# Altium schematic symbol library Transistor_FET.SchLib: 598 symbols (part 4 of 6)
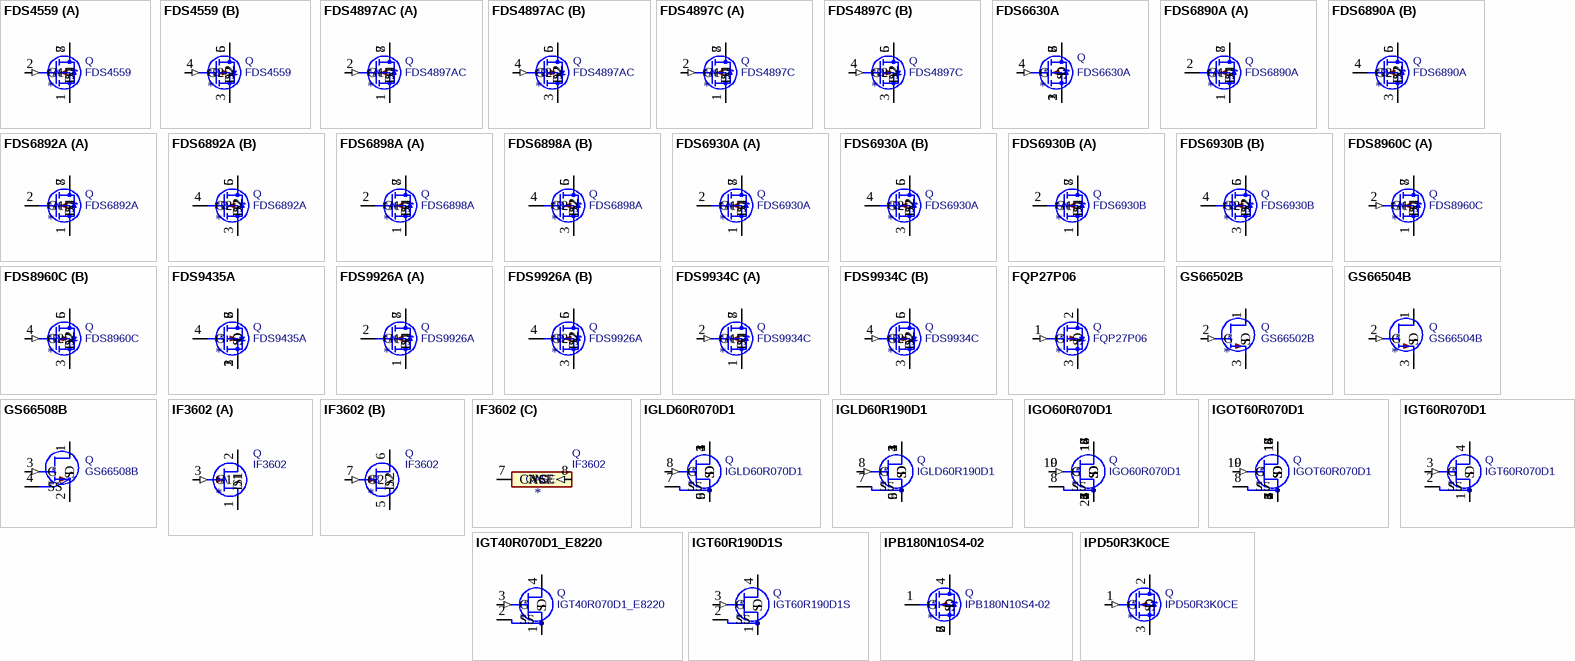
[diagram p19: symbols FDS4559 to IPD50R3K0CE]

## IPD50R3K0CE
designator *  value IPD50R3K0CE  Reference: Q
1.7A Id, 500V Vds, CoolMOS N-Channel Power MOSFET, 3Ohm Ron, 4.3nC Qg (typ), TO-252-2; ki_keywords: CoolMOS Power MOSFET N-MOS; ki_fp_filters: TO?252*; Footprint: Package_TO_SOT_SMD:TO-252-2; Datasheet: https://www.infineon.com/dgdl/IPx50R3K0CE_2_0.pdf?folderId=db3a3043163797a6011637d4bae7003b&fileId=db3a304339dcf4b10139e7e9ff592ce4; Description_: 1.7A Id, 500V Vds, CoolMOS N-Channel Power MOSFET, 3Ohm Ron, 4.3nC Qg (typ), TO-252-2
pins: 1 G (in), 2 D, 3 S

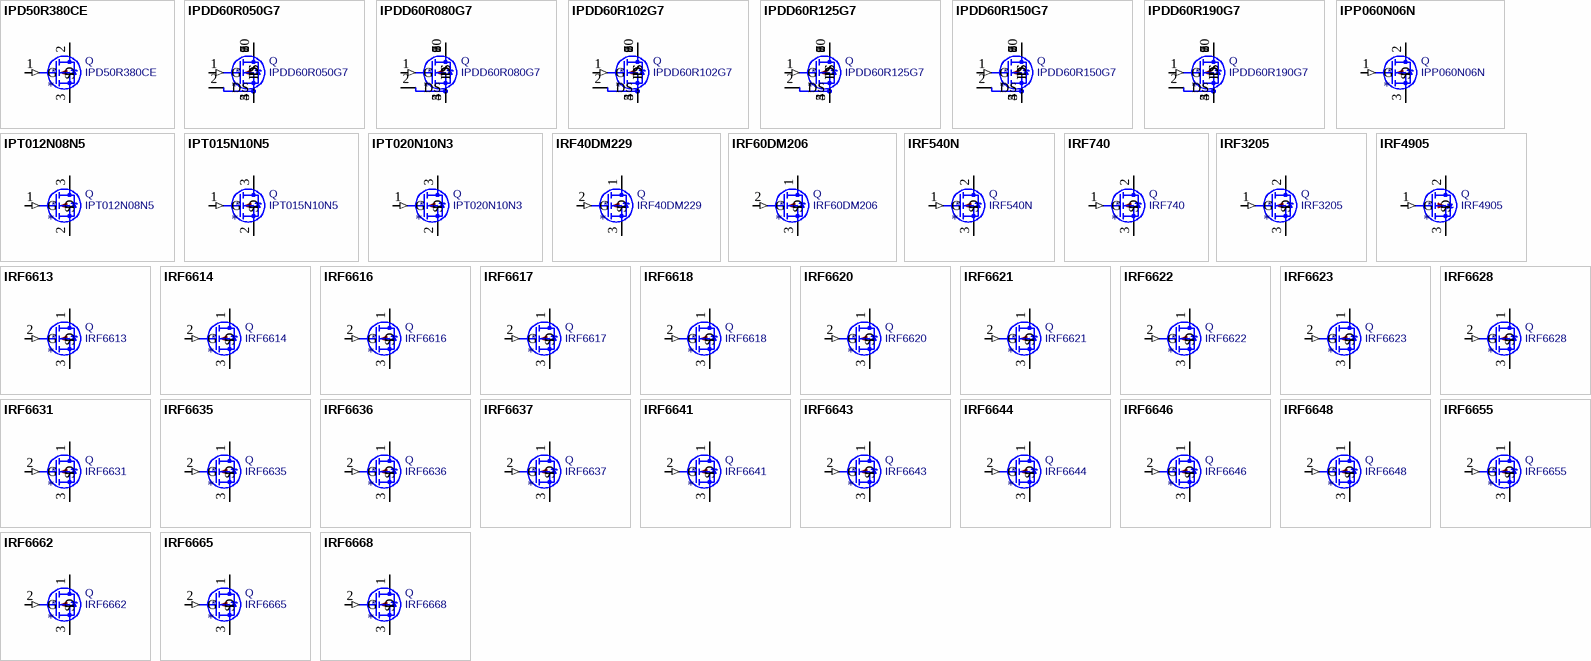
[diagram p9: symbols IPD50R380CE to IRF6668]

## IPD50R380CE
designator *  value IPD50R380CE  Reference: Q
14.1A Id, 500V Vds, CoolMOS N-Channel Power MOSFET, 380mOhm Ron, 24.8nC Qg (typ), TO-252-2; ki_keywords: CoolMOS Power MOSFET N-MOS; ki_fp_filters: TO?252*; Footprint: Package_TO_SOT_SMD:TO-252-2; Datasheet: https://www.infineon.com/dgdl/Infineon-IPD50R380CE-DS-v02_01-en.pdf?fileId=db3a30433ecb86d4013ed0a2ef580f38; Description_: 14.1A Id, 500V Vds, CoolMOS N-Channel Power MOSFET, 380mOhm Ron, 24.8nC Qg (typ), TO-252-2
pins: 1 G (in), 2 D, 3 S

## IPDD60R050G7
designator *  value IPDD60R050G7  Reference: Q
47A Id, 600V Vds, 50mOhm, N-Channel MOSFET, CoolMOS G7, PG-HDSOP-10-1 (DDPAK); ki_fp_filters: Infineon*PG*HDSOP*; Footprint: Package_TO_SOT_SMD:Infineon_PG-HDSOP-10-1; Datasheet: https://www.infineon.com/dgdl/Infineon-IPDD60R050G7-DS-v02_00-EN.pdf?fileId=5546d4626102d35a0161707eb2f97810; Description_: 47A Id, 600V Vds, 50mOhm, N-Channel MOSFET, CoolMOS G7, PG-HDSOP-10-1 (DDPAK); ki_keywords: N-Channel MOSFET
pins: 1 G (in), 2 DS, 3 PS, 4 PS, 5 PS, 6 D, 7 D, 8 D, 9 D, 10 D

## IPDD60R080G7
designator *  value IPDD60R080G7  Reference: Q
29A Id, 600V Vds, 80mOhm, N-Channel MOSFET, CoolMOS G7, PG-HDSOP-10-1 (DDPAK); ki_fp_filters: Infineon*PG*HDSOP*; Footprint: Package_TO_SOT_SMD:Infineon_PG-HDSOP-10-1; Datasheet: https://www.infineon.com/dgdl/Infineon-IPDD60R080G7-DS-v02_00-EN.pdf?fileId=5546d4626102d35a016170882f757a07; Description_: 29A Id, 600V Vds, 80mOhm, N-Channel MOSFET, CoolMOS G7, PG-HDSOP-10-1 (DDPAK); ki_keywords: N-Channel MOSFET
pins: 1 G (in), 2 DS, 3 PS, 4 PS, 5 PS, 6 D, 7 D, 8 D, 9 D, 10 D

## IPDD60R102G7
designator *  value IPDD60R102G7  Reference: Q
23A Id, 600V Vds, 102mOhm, N-Channel MOSFET, CoolMOS G7, PG-HDSOP-10-1 (DDPAK); ki_fp_filters: Infineon*PG*HDSOP*; Footprint: Package_TO_SOT_SMD:Infineon_PG-HDSOP-10-1; Datasheet: https://www.infineon.com/dgdl/Infineon-IPDD60R102G7-DS-v02_00-EN.pdf?fileId=5546d4626102d35a01617087ee7379ed; Description_: 23A Id, 600V Vds, 102mOhm, N-Channel MOSFET, CoolMOS G7, PG-HDSOP-10-1 (DDPAK); ki_keywords: N-Channel MOSFET
pins: 1 G (in), 2 DS, 3 PS, 4 PS, 5 PS, 6 D, 7 D, 8 D, 9 D, 10 D

## IPDD60R125G7
designator *  value IPDD60R125G7  Reference: Q
20A Id, 600V Vds, 125mOhm, N-Channel MOSFET, CoolMOS G7, PG-HDSOP-10-1 (DDPAK); ki_fp_filters: Infineon*PG*HDSOP*; Footprint: Package_TO_SOT_SMD:Infineon_PG-HDSOP-10-1; Datasheet: https://www.infineon.com/dgdl/Infineon-IPDD60R125G7-DS-v02_00-EN.pdf?fileId=5546d4626102d35a0161706cba27778f; Description_: 20A Id, 600V Vds, 125mOhm, N-Channel MOSFET, CoolMOS G7, PG-HDSOP-10-1 (DDPAK); ki_keywords: N-Channel MOSFET
pins: 1 G (in), 2 DS, 3 PS, 4 PS, 5 PS, 6 D, 7 D, 8 D, 9 D, 10 D

## IPDD60R150G7
designator *  value IPDD60R150G7  Reference: Q
16A Id, 600V Vds, 150mOhm, N-Channel MOSFET, CoolMOS G7, PG-HDSOP-10-1 (DDPAK); ki_fp_filters: Infineon*PG*HDSOP*; Footprint: Package_TO_SOT_SMD:Infineon_PG-HDSOP-10-1; Datasheet: https://www.infineon.com/dgdl/Infineon-IPDD60R150G7-DS-v02_00-EN.pdf?fileId=5546d4626102d35a016170806aa57863; Description_: 16A Id, 600V Vds, 150mOhm, N-Channel MOSFET, CoolMOS G7, PG-HDSOP-10-1 (DDPAK); ki_keywords: N-Channel MOSFET
pins: 1 G (in), 2 DS, 3 PS, 4 PS, 5 PS, 6 D, 7 D, 8 D, 9 D, 10 D

## IPDD60R190G7
designator *  value IPDD60R190G7  Reference: Q
13A Id, 600V Vds, 190mOhm, N-Channel MOSFET, CoolMOS G7, PG-HDSOP-10-1 (DDPAK); ki_fp_filters: Infineon*PG*HDSOP*; Footprint: Package_TO_SOT_SMD:Infineon_PG-HDSOP-10-1; Datasheet: https://www.infineon.com/dgdl/Infineon-IPDD60R190G7-DS-v02_00-EN.pdf?fileId=5546d4626102d35a01617087dc0f79ea; Description_: 13A Id, 600V Vds, 190mOhm, N-Channel MOSFET, CoolMOS G7, PG-HDSOP-10-1 (DDPAK); ki_keywords: N-Channel MOSFET
pins: 1 G (in), 2 DS, 3 PS, 4 PS, 5 PS, 6 D, 7 D, 8 D, 9 D, 10 D

## IPP060N06N
designator *  value IPP060N06N  Reference: Q
45A Id, 60V Vds, Single N-Channel Power MOSFET, 6mOhm Ron, TO-220; ki_keywords: N-Channel Power MOSFET Infineon; ki_fp_filters: TO?220*; Footprint: Package_TO_SOT_THT:TO-220-3_Vertical; Datasheet: https://www.infineon.com/dgdl/Infineon-IPP060N06N-DS-v02_02-en.pdf?fileId=db3a30433727a44301372c06d9d7498a; Description_: 45A Id, 60V Vds, Single N-Channel Power MOSFET, 6mOhm Ron, TO-220
pins: 1 G (in), 2 D, 3 S

## IPT012N08N5
designator *  value IPT012N08N5  Reference: Q
300A Id, 80V Vds, OptiMOS N-Channel Power MOSFET, 1.2mOhm Ron, Qg (typ) 178.0nC, PG-HSOF-8; ki_keywords: OptiMOS Power MOSFET N-MOS; ki_fp_filters: Infineon*PG*HSOF*; Footprint: Package_TO_SOT_SMD:Infineon_PG-HSOF-8-1; Datasheet: http://www.infineon.com/dgdl/Infineon-IPT012N08N5-DS-v02_01-EN.pdf?fileId=5546d4624a75e5f1014aca59127a1eb9; Description_: 300A Id, 80V Vds, OptiMOS N-Channel Power MOSFET, 1.2mOhm Ron, Qg (typ) 178.0nC, PG-HSOF-8
pins: 1 G (in), 2 S, 3 D

## IPT015N10N5
designator *  value IPT015N10N5  Reference: Q
300A Id, 100V Vds, OptiMOS N-Channel Power MOSFET, 1.5mOhm Ron, Qg (typ) 169.0nC, PG-HSOF-8; ki_keywords: OptiMOS Power MOSFET N-MOS; ki_fp_filters: Infineon*PG*HSOF*; Footprint: Package_TO_SOT_SMD:Infineon_PG-HSOF-8-1; Datasheet: http://www.infineon.com/dgdl/Infineon-IPT015N10N5-DS-v02_01-EN.pdf?fileId=5546d4624a75e5f1014ac94680661aff; Description_: 300A Id, 100V Vds, OptiMOS N-Channel Power MOSFET, 1.5mOhm Ron, Qg (typ) 169.0nC, PG-HSOF-8
pins: 1 G (in), 2 S, 3 D

## IPT020N10N3
designator *  value IPT020N10N3  Reference: Q
300A Id, 100V Vds, OptiMOS N-Channel Power MOSFET, 2.0mOhm Ron, Qg (typ) 156.0nC, PG-HSOF-8; ki_keywords: OptiMOS Power MOSFET N-MOS; ki_fp_filters: Infineon*PG*HSOF*; Footprint: Package_TO_SOT_SMD:Infineon_PG-HSOF-8-1; Datasheet: http://www.infineon.com/dgdl/Infineon-IPT020N10N3-DS-v02_00-en.pdf?fileId=db3a30433e9d5d11013e9e58035b0158; Description_: 300A Id, 100V Vds, OptiMOS N-Channel Power MOSFET, 2.0mOhm Ron, Qg (typ) 156.0nC, PG-HSOF-8
pins: 1 G (in), 2 S, 3 D

## IRF40DM229
designator *  value IRF40DM229  Reference: Q
159A Id, 40V Vds, 1.85mOhm Rds, N-Channel MOSFET, DirectFET MF; ki_fp_filters: DirectFET*MF*; Footprint: Package_DirectFET:DirectFET_MF; Datasheet: https://www.infineon.com/dgdl/Infineon-IRF40DM229-DS-v02_00-EN.pdf?fileId=5546d462557e6e890155a15c899160ea; Description_: 159A Id, 40V Vds, 1.85mOhm Rds, N-Channel MOSFET, DirectFET MF; ki_keywords: N-Channel MOSFET
pins: 1 D, 2 G (in), 3 S

## IRF60DM206
designator *  value IRF60DM206  Reference: Q
130A Id, 60V Vds, 2.9mOhm Rds, N-Channel MOSFET, DirectFET ME; ki_fp_filters: DirectFET*ME*; Footprint: Package_DirectFET:DirectFET_ME; Datasheet: https://www.infineon.com/dgdl/irf60dm206.pdf?fileId=5546d462533600a4015355e433aa19ca; Description_: 130A Id, 60V Vds, 2.9mOhm Rds, N-Channel MOSFET, DirectFET ME; ki_keywords: N-Channel MOSFET
pins: 1 D, 2 G (in), 3 S

## IRF540N
designator *  value IRF540N  Reference: Q
33A Id, 100V Vds, HEXFET N-Channel MOSFET, TO-220; ki_fp_filters: TO?220*; Footprint: Package_TO_SOT_THT:TO-220-3_Vertical; Datasheet: http://www.irf.com/product-info/datasheets/data/irf540n.pdf; Description_: 33A Id, 100V Vds, HEXFET N-Channel MOSFET, TO-220; ki_keywords: HEXFET N-Channel MOSFET
pins: 1 G (in), 2 D, 3 S

## IRF740
designator *  value IRF740  Reference: Q
10A Id, 400V Vds, N-Channel Power MOSFET, 500mOhm Rds, TO-220AB; ki_keywords: N Channel; ki_fp_filters: TO?220*; Footprint: Package_TO_SOT_THT:TO-220-3_Vertical; Datasheet: http://www.vishay.com/docs/91054/91054.pdf; Description_: 10A Id, 400V Vds, N-Channel Power MOSFET, 500mOhm Rds, TO-220AB
pins: 1 G (in), 2 D, 3 S

## IRF3205
designator *  value IRF3205  Reference: Q
110A Id, 55V Vds, Single N-Channel HEXFET Power MOSFET, 8mOhm Ron, TO-220AB; ki_fp_filters: TO?220*; Footprint: Package_TO_SOT_THT:TO-220-3_Vertical; Datasheet: http://www.irf.com/product-info/datasheets/data/irf3205.pdf; Description_: 110A Id, 55V Vds, Single N-Channel HEXFET Power MOSFET, 8mOhm Ron, TO-220AB; ki_keywords: Single N-Channel HEXFET Power MOSFET
pins: 1 G (in), 2 D, 3 S

## IRF4905
designator *  value IRF4905  Reference: Q
-74A Id, -55V Vds, Single P-Channel HEXFET Power MOSFET, 20mOhm Ron, TO-220AB; ki_fp_filters: TO?220*; Footprint: Package_TO_SOT_THT:TO-220-3_Vertical; Datasheet: http://www.infineon.com/dgdl/irf4905.pdf?fileId=5546d462533600a4015355e32165197c; Description_: -74A Id, -55V Vds, Single P-Channel HEXFET Power MOSFET, 20mOhm Ron, TO-220AB; ki_keywords: Single P-Channel HEXFET Power MOSFET
pins: 1 G (in), 2 D, 3 S

## IRF6613
designator *  value IRF6613  Reference: Q
150A Id, 40V Vds, 3.4mOhm Rds, N-Channel MOSFET, DirectFET MT; ki_fp_filters: DirectFET*MT*; Footprint: Package_DirectFET:DirectFET_MT; Datasheet: https://www.infineon.com/dgdl/irf6613pbf.pdf?fileId=5546d462533600a4015355e82b9b1a0d; Description_: 150A Id, 40V Vds, 3.4mOhm Rds, N-Channel MOSFET, DirectFET MT; ki_keywords: N-Channel MOSFET
pins: 1 D, 2 G (in), 3 S

## IRF6614
designator *  value IRF6614  Reference: Q
12.7A Id, 40V Vds, 8.3mOhm Rds, N-Channel MOSFET, DirectFET ST; ki_fp_filters: DirectFET*ST*; Footprint: Package_DirectFET:DirectFET_ST; Datasheet: https://www.infineon.com/dgdl/irf6614pbf.pdf?fileId=5546d462533600a4015355e8346c1a0f; Description_: 12.7A Id, 40V Vds, 8.3mOhm Rds, N-Channel MOSFET, DirectFET ST; ki_keywords: N-Channel MOSFET
pins: 1 D, 2 G (in), 3 S

## IRF6616
designator *  value IRF6616  Reference: Q
19A Id, 40V Vds, 5mOhm Rds, N-Channel MOSFET, DirectFET MX; ki_fp_filters: DirectFET*MX*; Footprint: Package_DirectFET:DirectFET_MX; Datasheet: https://www.infineon.com/dgdl/irf6616pbf.pdf?fileId=5546d462533600a4015355e843461a13; Description_: 19A Id, 40V Vds, 5mOhm Rds, N-Channel MOSFET, DirectFET MX; ki_keywords: N-Channel MOSFET
pins: 1 D, 2 G (in), 3 S

## IRF6617
designator *  value IRF6617  Reference: Q
55A Id, 30V Vds, 8.1mOhm Rds, N-Channel MOSFET, DirectFET ST; ki_fp_filters: DirectFET*ST*; Footprint: Package_DirectFET:DirectFET_ST; Datasheet: https://www.infineon.com/dgdl/irf6617pbf.pdf?fileId=5546d462533600a4015355e853f21a17; Description_: 55A Id, 30V Vds, 8.1mOhm Rds, N-Channel MOSFET, DirectFET ST; ki_keywords: N-Channel MOSFET
pins: 1 D, 2 G (in), 3 S

## IRF6618
designator *  value IRF6618  Reference: Q
170A Id, 30V Vds, 2.2mOhm Rds, N-Channel MOSFET, DirectFET MT; ki_fp_filters: DirectFET*MT*; Footprint: Package_DirectFET:DirectFET_MT; Datasheet: https://www.infineon.com/dgdl/irf6618pbf.pdf?fileId=5546d462533600a4015355e862c21a1b; Description_: 170A Id, 30V Vds, 2.2mOhm Rds, N-Channel MOSFET, DirectFET MT; ki_keywords: N-Channel MOSFET
pins: 1 D, 2 G (in), 3 S

## IRF6620
designator *  value IRF6620  Reference: Q
150A Id, 20V Vds, 2.7mOhm Rds, N-Channel MOSFET, DirectFET MX; ki_fp_filters: DirectFET*MX*; Footprint: Package_DirectFET:DirectFET_MX; Datasheet: https://www.infineon.com/dgdl/irf6620pbf.pdf?fileId=5546d462533600a4015355e8831d1a23; Description_: 150A Id, 20V Vds, 2.7mOhm Rds, N-Channel MOSFET, DirectFET MX; ki_keywords: N-Channel MOSFET
pins: 1 D, 2 G (in), 3 S

## IRF6621
designator *  value IRF6621  Reference: Q
12A Id, 30V Vds, 9.1mOhm Rds, N-Channel MOSFET, DirectFET SQ; ki_fp_filters: DirectFET*SQ*; Footprint: Package_DirectFET:DirectFET_SQ; Datasheet: https://www.infineon.com/dgdl/irf6621pbf.pdf?fileId=5546d462533600a4015355e8923b1a27; Description_: 12A Id, 30V Vds, 9.1mOhm Rds, N-Channel MOSFET, DirectFET SQ; ki_keywords: N-Channel MOSFET
pins: 1 D, 2 G (in), 3 S

## IRF6622
designator *  value IRF6622  Reference: Q
15A Id, 25V Vds, 6.3mOhm Rds, N-Channel MOSFET, DirectFET SQ; ki_fp_filters: DirectFET*SQ*; Footprint: Package_DirectFET:DirectFET_SQ; Datasheet: https://www.infineon.com/dgdl/irf6622pbf.pdf?fileId=5546d462533600a4015355e89a3a1a29; Description_: 15A Id, 25V Vds, 6.3mOhm Rds, N-Channel MOSFET, DirectFET SQ; ki_keywords: N-Channel MOSFET
pins: 1 D, 2 G (in), 3 S

## IRF6623
designator *  value IRF6623  Reference: Q
55A Id, 20V Vds, 5.7mOhm Rds, N-Channel MOSFET, DirectFET ST; ki_fp_filters: DirectFET*ST*; Footprint: Package_DirectFET:DirectFET_ST; Datasheet: https://www.infineon.com/dgdl/irf6623pbf.pdf?fileId=5546d462533600a4015355e8aa811a2d; Description_: 55A Id, 20V Vds, 5.7mOhm Rds, N-Channel MOSFET, DirectFET ST; ki_keywords: N-Channel MOSFET
pins: 1 D, 2 G (in), 3 S

## IRF6628
designator *  value IRF6628  Reference: Q
27A Id, 25V Vds, 2.5mOhm Rds, N-Channel MOSFET, DirectFET MX; ki_fp_filters: DirectFET*MX*; Footprint: Package_DirectFET:DirectFET_MX; Datasheet: https://www.infineon.com/dgdl/irf6628pbf.pdf?fileId=5546d462533600a4015355e8c0d71a33; Description_: 27A Id, 25V Vds, 2.5mOhm Rds, N-Channel MOSFET, DirectFET MX; ki_keywords: N-Channel MOSFET
pins: 1 D, 2 G (in), 3 S

## IRF6631
designator *  value IRF6631  Reference: Q
13A Id, 30V Vds, 7.8mOhm Rds, N-Channel MOSFET, DirectFET SQ; ki_fp_filters: DirectFET*SQ*; Footprint: Package_DirectFET:DirectFET_SQ; Datasheet: https://www.infineon.com/dgdl/irf6631pbf.pdf?fileId=5546d462533600a4015355e8d0561a37; Description_: 13A Id, 30V Vds, 7.8mOhm Rds, N-Channel MOSFET, DirectFET SQ; ki_keywords: N-Channel MOSFET
pins: 1 D, 2 G (in), 3 S

## IRF6635
designator *  value IRF6635  Reference: Q
32A Id, 30V Vds, 1.8mOhm Rds, N-Channel MOSFET, DirectFET MX; ki_fp_filters: DirectFET*MX*; Footprint: Package_DirectFET:DirectFET_MX; Datasheet: https://www.infineon.com/dgdl/irf6635pbf.pdf?fileId=5546d462533600a4015355e8e7ab1a3d; Description_: 32A Id, 30V Vds, 1.8mOhm Rds, N-Channel MOSFET, DirectFET MX; ki_keywords: N-Channel MOSFET
pins: 1 D, 2 G (in), 3 S

## IRF6636
designator *  value IRF6636  Reference: Q
18A Id, 20V Vds, 4.5mOhm Rds, N-Channel MOSFET, DirectFET ST; ki_fp_filters: DirectFET*ST*; Footprint: Package_DirectFET:DirectFET_ST; Datasheet: https://www.infineon.com/dgdl/irf6636pbf.pdf?fileId=5546d462533600a4015355e8f7b31a41; Description_: 18A Id, 20V Vds, 4.5mOhm Rds, N-Channel MOSFET, DirectFET ST; ki_keywords: N-Channel MOSFET
pins: 1 D, 2 G (in), 3 S

## IRF6637
designator *  value IRF6637  Reference: Q
14A Id, 30V Vds, 7.7mOhm Rds, N-Channel MOSFET, DirectFET MP; ki_fp_filters: DirectFET*MP*; Footprint: Package_DirectFET:DirectFET_MP; Datasheet: https://www.infineon.com/dgdl/irf6637pbf.pdf?fileId=5546d462533600a4015355ec1fab1a45; Description_: 14A Id, 30V Vds, 7.7mOhm Rds, N-Channel MOSFET, DirectFET MP; ki_keywords: N-Channel MOSFET
pins: 1 D, 2 G (in), 3 S

## IRF6641
designator *  value IRF6641  Reference: Q
26A Id, 200V Vds, 59.9mOhm Rds, N-Channel MOSFET, DirectFET MZ; ki_fp_filters: DirectFET*MZ*; Footprint: Package_DirectFET:DirectFET_MZ; Datasheet: https://www.infineon.com/dgdl/irf6641pbf.pdf?fileId=5546d462533600a4015355ec30311a49; Description_: 26A Id, 200V Vds, 59.9mOhm Rds, N-Channel MOSFET, DirectFET MZ; ki_keywords: N-Channel MOSFET
pins: 1 D, 2 G (in), 3 S

## IRF6643
designator *  value IRF6643  Reference: Q
35A Id, 150V Vds, 34.5mOhm Rds, N-Channel MOSFET, DirectFET MZ; ki_fp_filters: DirectFET*MZ*; Footprint: Package_DirectFET:DirectFET_MZ; Datasheet: https://www.infineon.com/dgdl/irf6643pbf.pdf?fileId=5546d462533600a4015355ec388f1a4b; Description_: 35A Id, 150V Vds, 34.5mOhm Rds, N-Channel MOSFET, DirectFET MZ; ki_keywords: N-Channel MOSFET
pins: 1 D, 2 G (in), 3 S

## IRF6644
designator *  value IRF6644  Reference: Q
57A Id, 100V Vds, 13mOhm Rds, N-Channel MOSFET, DirectFET MN; ki_fp_filters: DirectFET*MN*; Footprint: Package_DirectFET:DirectFET_MN; Datasheet: https://www.infineon.com/dgdl/Infineon-IRF6644-DS-v01_01-EN.pdf?fileId=5546d462533600a4015355ec47ac1a4f; Description_: 57A Id, 100V Vds, 13mOhm Rds, N-Channel MOSFET, DirectFET MN; ki_keywords: N-Channel MOSFET
pins: 1 D, 2 G (in), 3 S

## IRF6646
designator *  value IRF6646  Reference: Q
12A Id, 80V Vds, 9.5mOhm Rds, N-Channel MOSFET, DirectFET MN; ki_fp_filters: DirectFET*MN*; Footprint: Package_DirectFET:DirectFET_MN; Datasheet: https://www.infineon.com/dgdl/irf6646pbf.pdf?fileId=5546d462533600a4015355ec5f071a55; Description_: 12A Id, 80V Vds, 9.5mOhm Rds, N-Channel MOSFET, DirectFET MN; ki_keywords: N-Channel MOSFET
pins: 1 D, 2 G (in), 3 S

## IRF6648
designator *  value IRF6648  Reference: Q
86A Id, 60V Vds, 7mOhm Rds, N-Channel MOSFET, DirectFET MN; ki_fp_filters: DirectFET*MN*; Footprint: Package_DirectFET:DirectFET_MN; Datasheet: https://www.infineon.com/dgdl/Infineon-IRF6648-DS-v01_02-EN.pdf?fileId=5546d462533600a4015355ec6e561a59; Description_: 86A Id, 60V Vds, 7mOhm Rds, N-Channel MOSFET, DirectFET MN; ki_keywords: N-Channel MOSFET
pins: 1 D, 2 G (in), 3 S

## IRF6655
designator *  value IRF6655  Reference: Q
4.2A Id, 100V Vds, 62mOhm Rds, N-Channel MOSFET, DirectFET SH; ki_fp_filters: DirectFET*SH*; Footprint: Package_DirectFET:DirectFET_SH; Datasheet: https://www.infineon.com/dgdl/irf6655pbf.pdf?fileId=5546d462533600a4015355ec76961a5b; Description_: 4.2A Id, 100V Vds, 62mOhm Rds, N-Channel MOSFET, DirectFET SH; ki_keywords: N-Channel MOSFET
pins: 1 D, 2 G (in), 3 S

## IRF6662
designator *  value IRF6662  Reference: Q
8.3A Id, 100V Vds, 22mOhm Rds, N-Channel MOSFET, DirectFET MN; ki_fp_filters: DirectFET*MN*; Footprint: Package_DirectFET:DirectFET_MN; Datasheet: https://www.infineon.com/dgdl/irf6662pbf.pdf?fileId=5546d462533600a4015355ec7edc1a5d; Description_: 8.3A Id, 100V Vds, 22mOhm Rds, N-Channel MOSFET, DirectFET MN; ki_keywords: N-Channel MOSFET
pins: 1 D, 2 G (in), 3 S

## IRF6665
designator *  value IRF6665  Reference: Q
19A Id, 100V Vds, 62mOhm Rds, N-Channel MOSFET, DirectFET SH; ki_fp_filters: DirectFET*SH*; Footprint: Package_DirectFET:DirectFET_SH; Datasheet: https://www.infineon.com/dgdl/irf6665pbf.pdf?fileId=5546d462533600a4015355ec8dcb1a62; Description_: 19A Id, 100V Vds, 62mOhm Rds, N-Channel MOSFET, DirectFET SH; ki_keywords: N-Channel MOSFET
pins: 1 D, 2 G (in), 3 S

## IRF6668
designator *  value IRF6668  Reference: Q
55A Id, 80V Vds, 15mOhm Rds, N-Channel MOSFET, DirectFET MN; ki_fp_filters: DirectFET*MN*; Footprint: Package_DirectFET:DirectFET_MN; Datasheet: https://www.infineon.com/dgdl/irf6668pbf.pdf?fileId=5546d462533600a4015355ec96b91a64; Description_: 55A Id, 80V Vds, 15mOhm Rds, N-Channel MOSFET, DirectFET MN; ki_keywords: N-Channel MOSFET
pins: 1 D, 2 G (in), 3 S

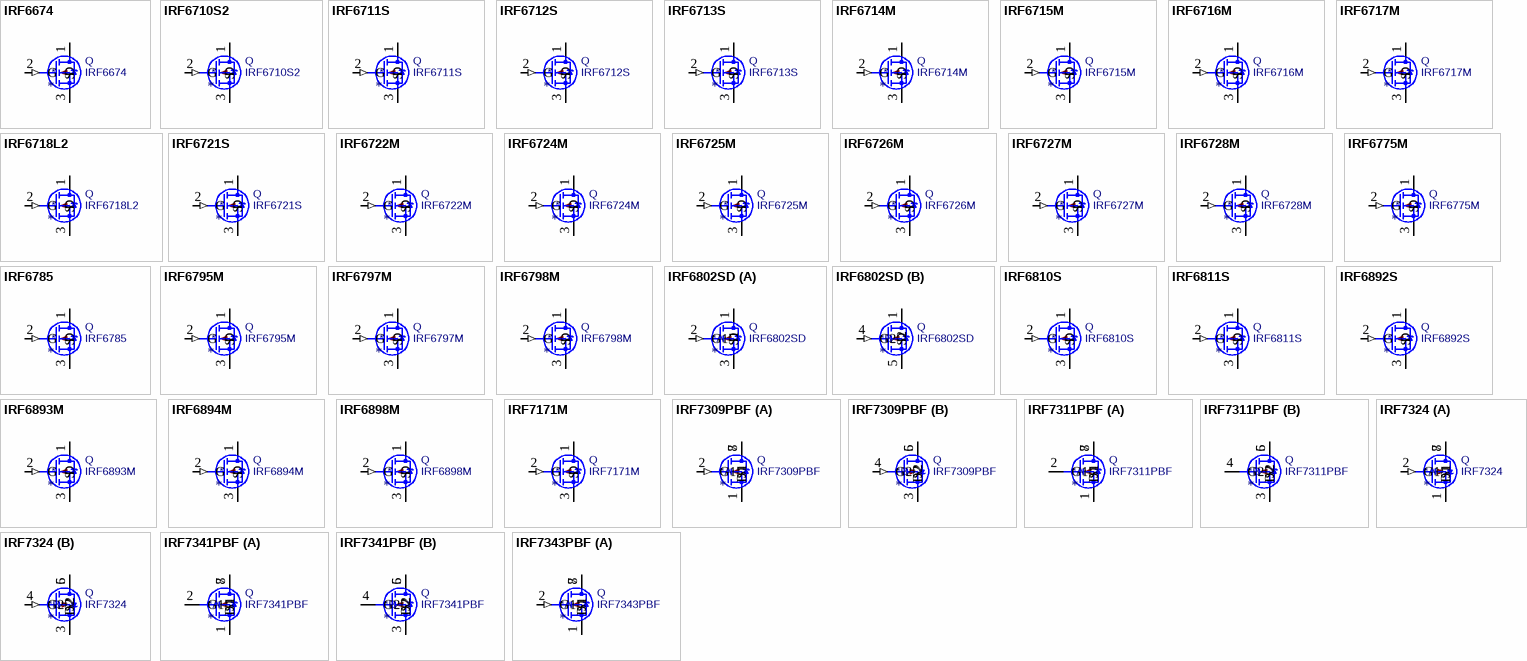
[diagram p10: symbols IRF6674 to IRF7343PBF]

## IRF6674
designator *  value IRF6674  Reference: Q
13.4A Id, 60V Vds, 11mOhm Rds, N-Channel MOSFET, DirectFET MZ; ki_fp_filters: DirectFET*MZ*; Footprint: Package_DirectFET:DirectFET_MZ; Datasheet: https://www.infineon.com/dgdl/irf6674pbf.pdf?fileId=5546d462533600a4015355ec9f0d1a66; Description_: 13.4A Id, 60V Vds, 11mOhm Rds, N-Channel MOSFET, DirectFET MZ; ki_keywords: N-Channel MOSFET
pins: 1 D, 2 G (in), 3 S

## IRF6710S2
designator *  value IRF6710S2  Reference: Q
12A Id, 25V Vds, 5.9mOhm Rds, N-Channel MOSFET, DirectFET S1; ki_fp_filters: DirectFET*S1*; Footprint: Package_DirectFET:DirectFET_S1; Datasheet: https://www.infineon.com/dgdl/irf6710s2pbf.pdf?fileId=5546d462533600a4015355ece3db1a78; Description_: 12A Id, 25V Vds, 5.9mOhm Rds, N-Channel MOSFET, DirectFET S1; ki_keywords: N-Channel MOSFET
pins: 1 D, 2 G (in), 3 S

## IRF6711S
designator *  value IRF6711S  Reference: Q
19A Id, 25V Vds, 3.8mOhm Rds, N-Channel MOSFET, DirectFET SQ; ki_fp_filters: DirectFET*SQ*; Footprint: Package_DirectFET:DirectFET_SQ; Datasheet: https://www.infineon.com/dgdl/irf6711spbf.pdf?fileId=5546d462533600a4015355ecec0b1a7a; Description_: 19A Id, 25V Vds, 3.8mOhm Rds, N-Channel MOSFET, DirectFET SQ; ki_keywords: N-Channel MOSFET
pins: 1 D, 2 G (in), 3 S

## IRF6712S
designator *  value IRF6712S  Reference: Q
17A Id, 25V Vds, 4.9mOhm Rds, N-Channel MOSFET, DirectFET SQ; ki_fp_filters: DirectFET*SQ*; Footprint: Package_DirectFET:DirectFET_SQ; Datasheet: https://www.infineon.com/dgdl/irf6712spbf.pdf?fileId=5546d462533600a4015355ecf4331a7c; Description_: 17A Id, 25V Vds, 4.9mOhm Rds, N-Channel MOSFET, DirectFET SQ; ki_keywords: N-Channel MOSFET
pins: 1 D, 2 G (in), 3 S

## IRF6713S
designator *  value IRF6713S  Reference: Q
22A Id, 25V Vds, 3mOhm Rds, N-Channel MOSFET, DirectFET SQ; ki_fp_filters: DirectFET*SQ*; Footprint: Package_DirectFET:DirectFET_SQ; Datasheet: https://www.infineon.com/dgdl/irf6713spbf.pdf?fileId=5546d462533600a4015355ecfc5c1a7e; Description_: 22A Id, 25V Vds, 3mOhm Rds, N-Channel MOSFET, DirectFET SQ; ki_keywords: N-Channel MOSFET
pins: 1 D, 2 G (in), 3 S

## IRF6714M
designator *  value IRF6714M  Reference: Q
29A Id, 25V Vds, 2.1mOhm Rds, N-Channel MOSFET, DirectFET MX; ki_fp_filters: DirectFET*MX*; Footprint: Package_DirectFET:DirectFET_MX; Datasheet: https://www.infineon.com/dgdl/irf6714mpbf.pdf?fileId=5546d462533600a4015355ed04be1a80; Description_: 29A Id, 25V Vds, 2.1mOhm Rds, N-Channel MOSFET, DirectFET MX; ki_keywords: N-Channel MOSFET
pins: 1 D, 2 G (in), 3 S

## IRF6715M
designator *  value IRF6715M  Reference: Q
34A Id, 25V Vds, 1.6mOhm Rds, N-Channel MOSFET, DirectFET MX; ki_fp_filters: DirectFET*MX*; Footprint: Package_DirectFET:DirectFET_MX; Datasheet: https://www.infineon.com/dgdl/irf6715mpbf.pdf?fileId=5546d462533600a4015355ed0d221a82; Description_: 34A Id, 25V Vds, 1.6mOhm Rds, N-Channel MOSFET, DirectFET MX; ki_keywords: N-Channel MOSFET
pins: 1 D, 2 G (in), 3 S

## IRF6716M
designator *  value IRF6716M  Reference: Q
39A Id, 25V Vds, 1.6mOhm Rds, N-Channel MOSFET, DirectFET MX; ki_fp_filters: DirectFET*MX*; Footprint: Package_DirectFET:DirectFET_MX; Datasheet: https://www.infineon.com/dgdl/irf6716mpbf.pdf?fileId=5546d462533600a4015355ed15241a84; Description_: 39A Id, 25V Vds, 1.6mOhm Rds, N-Channel MOSFET, DirectFET MX; ki_keywords: N-Channel MOSFET
pins: 1 D, 2 G (in), 3 S

## IRF6717M
designator *  value IRF6717M  Reference: Q
38A Id, 25V Vds, 1.25mOhm Rds, N-Channel MOSFET, DirectFET MX; ki_fp_filters: DirectFET*MX*; Footprint: Package_DirectFET:DirectFET_MX; Datasheet: https://www.infineon.com/dgdl/irf6717mpbf.pdf?fileId=5546d462533600a4015355ed1d801a86; Description_: 38A Id, 25V Vds, 1.25mOhm Rds, N-Channel MOSFET, DirectFET MX; ki_keywords: N-Channel MOSFET
pins: 1 D, 2 G (in), 3 S

## IRF6718L2
designator *  value IRF6718L2  Reference: Q
61A Id, 25V Vds, 0.7mOhm Rds, N-Channel MOSFET, DirectFET L6; ki_fp_filters: DirectFET*L6*; Footprint: Package_DirectFET:DirectFET_L6; Datasheet: https://www.infineon.com/dgdl/irf6718l2pbf.pdf?fileId=5546d462533600a4015355ed25bd1a88; Description_: 61A Id, 25V Vds, 0.7mOhm Rds, N-Channel MOSFET, DirectFET L6; ki_keywords: N-Channel MOSFET
pins: 1 D, 2 G (in), 3 S

## IRF6721S
designator *  value IRF6721S  Reference: Q
14A Id, 30V Vds, 7.3mOhm Rds, N-Channel MOSFET, DirectFET SQ; ki_fp_filters: DirectFET*SQ*; Footprint: Package_DirectFET:DirectFET_SQ; Datasheet: https://www.infineon.com/dgdl/irf6721spbf.pdf?fileId=5546d462533600a4015355ed33b51a8c; Description_: 14A Id, 30V Vds, 7.3mOhm Rds, N-Channel MOSFET, DirectFET SQ; ki_keywords: N-Channel MOSFET
pins: 1 D, 2 G (in), 3 S

## IRF6722M
designator *  value IRF6722M  Reference: Q
13A Id, 30V Vds, 7.7mOhm Rds, N-Channel MOSFET, DirectFET MP; ki_fp_filters: DirectFET*MP*; Footprint: Package_DirectFET:DirectFET_MP; Datasheet: https://www.infineon.com/dgdl/irf6722mpbf.pdf?fileId=5546d462533600a4015355ed3c661a8e; Description_: 13A Id, 30V Vds, 7.7mOhm Rds, N-Channel MOSFET, DirectFET MP; ki_keywords: N-Channel MOSFET
pins: 1 D, 2 G (in), 3 S

## IRF6724M
designator *  value IRF6724M  Reference: Q
27A Id, 30V Vds, 2.5mOhm Rds, N-Channel MOSFET, DirectFET MX; ki_fp_filters: DirectFET*MX*; Footprint: Package_DirectFET:DirectFET_MX; Datasheet: https://www.infineon.com/dgdl/irf6724mpbf.pdf?fileId=5546d462533600a4015355ed51a01a94; Description_: 27A Id, 30V Vds, 2.5mOhm Rds, N-Channel MOSFET, DirectFET MX; ki_keywords: N-Channel MOSFET
pins: 1 D, 2 G (in), 3 S

## IRF6725M
designator *  value IRF6725M  Reference: Q
28A Id, 30V Vds, 2.2mOhm Rds, N-Channel MOSFET, DirectFET MX; ki_fp_filters: DirectFET*MX*; Footprint: Package_DirectFET:DirectFET_MX; Datasheet: https://www.infineon.com/dgdl/irf6725mpbf.pdf?fileId=5546d462533600a4015355ed59ca1a96; Description_: 28A Id, 30V Vds, 2.2mOhm Rds, N-Channel MOSFET, DirectFET MX; ki_keywords: N-Channel MOSFET
pins: 1 D, 2 G (in), 3 S

## IRF6726M
designator *  value IRF6726M  Reference: Q
32A Id, 30V Vds, 1.7mOhm Rds, N-Channel MOSFET, DirectFET MT; ki_fp_filters: DirectFET*MT*; Footprint: Package_DirectFET:DirectFET_MT; Datasheet: https://www.infineon.com/dgdl/irf6726mpbf.pdf?fileId=5546d462533600a4015355ed61db1a98; Description_: 32A Id, 30V Vds, 1.7mOhm Rds, N-Channel MOSFET, DirectFET MT; ki_keywords: N-Channel MOSFET
pins: 1 D, 2 G (in), 3 S

## IRF6727M
designator *  value IRF6727M  Reference: Q
32A Id, 30V Vds, 1.7mOhm Rds, N-Channel MOSFET, DirectFET MX; ki_fp_filters: DirectFET*MX*; Footprint: Package_DirectFET:DirectFET_MX; Datasheet: https://www.infineon.com/dgdl/irf6727mpbf.pdf?fileId=5546d462533600a4015355ed6a331a9a; Description_: 32A Id, 30V Vds, 1.7mOhm Rds, N-Channel MOSFET, DirectFET MX; ki_keywords: N-Channel MOSFET
pins: 1 D, 2 G (in), 3 S

## IRF6728M
designator *  value IRF6728M  Reference: Q
23A Id, 30V Vds, 2.5mOhm Rds, N-Channel MOSFET, DirectFET MX; ki_fp_filters: DirectFET*MX*; Footprint: Package_DirectFET:DirectFET_MX; Datasheet: https://www.infineon.com/dgdl/irf6728mpbf.pdf?fileId=5546d462533600a4015355ed73701a9c; Description_: 23A Id, 30V Vds, 2.5mOhm Rds, N-Channel MOSFET, DirectFET MX; ki_keywords: N-Channel MOSFET
pins: 1 D, 2 G (in), 3 S

## IRF6775M
designator *  value IRF6775M  Reference: Q
28A Id, 150V Vds, 56mOhm Rds, N-Channel MOSFET, DirectFET MZ; ki_fp_filters: DirectFET*MZ*; Footprint: Package_DirectFET:DirectFET_MZ; Datasheet: https://www.infineon.com/dgdl/irf6775mpbf.pdf?fileId=5546d462533600a4015355ed84751aa0; Description_: 28A Id, 150V Vds, 56mOhm Rds, N-Channel MOSFET, DirectFET MZ; ki_keywords: N-Channel MOSFET
pins: 1 D, 2 G (in), 3 S

## IRF6785
designator *  value IRF6785  Reference: Q
19A Id, 200V Vds, 100mOhm Rds, N-Channel MOSFET, DirectFET MZ; ki_fp_filters: DirectFET*MZ*; Footprint: Package_DirectFET:DirectFET_MZ; Datasheet: https://www.infineon.com/dgdl/irf6785mpbf.pdf?fileId=5546d462533600a4015355ed8cc31aa2; Description_: 19A Id, 200V Vds, 100mOhm Rds, N-Channel MOSFET, DirectFET MZ; ki_keywords: N-Channel MOSFET
pins: 1 D, 2 G (in), 3 S

## IRF6795M
designator *  value IRF6795M  Reference: Q
32A Id, 25V Vds, 1.8mOhm Rds, N-Channel MOSFET, DirectFET MX; ki_fp_filters: DirectFET*MX*; Footprint: Package_DirectFET:DirectFET_MX; Datasheet: https://www.infineon.com/dgdl/irf6795mpbf.pdf?fileId=5546d462533600a4015355ed99cd1aa6; Description_: 32A Id, 25V Vds, 1.8mOhm Rds, N-Channel MOSFET, DirectFET MX; ki_keywords: N-Channel MOSFET
pins: 1 D, 2 G (in), 3 S

## IRF6797M
designator *  value IRF6797M  Reference: Q
36A Id, 25V Vds, 1.4mOhm Rds, N-Channel MOSFET, DirectFET MX; ki_fp_filters: DirectFET*MX*; Footprint: Package_DirectFET:DirectFET_MX; Datasheet: https://www.infineon.com/dgdl/irf6797mpbf.pdf?fileId=5546d462533600a4015355eda2091aa9; Description_: 36A Id, 25V Vds, 1.4mOhm Rds, N-Channel MOSFET, DirectFET MX; ki_keywords: N-Channel MOSFET
pins: 1 D, 2 G (in), 3 S

## IRF6798M
designator *  value IRF6798M  Reference: Q
37A Id, 25V Vds, 1.3mOhm Rds, N-Channel MOSFET, DirectFET MX; ki_fp_filters: DirectFET*MX*; Footprint: Package_DirectFET:DirectFET_MX; Datasheet: https://www.infineon.com/dgdl/irf6798mpbf.pdf?fileId=5546d462533600a4015355edaa4b1aab; Description_: 37A Id, 25V Vds, 1.3mOhm Rds, N-Channel MOSFET, DirectFET MX; ki_keywords: N-Channel MOSFET
pins: 1 D, 2 G (in), 3 S

## IRF6802SD
designator *  value IRF6802SD  Reference: Q
16A Id, 25V Vds, 4.2mOhm Rds, Dual N-Channel MOSFET, DirectFET SA; ki_fp_filters: DirectFET*SA*; Footprint: Package_DirectFET:DirectFET_SA; Datasheet: https://www.infineon.com/dgdl/irf6802sdpbf.pdf?fileId=5546d462533600a4015355f0a3021ab2; Description_: 16A Id, 25V Vds, 4.2mOhm Rds, Dual N-Channel MOSFET, DirectFET SA; ki_keywords: Dual N-Channel MOSFET
part A pins: 1 D, 2 G1 (in), 3 S1
part B pins: 1 D, 4 G2 (in), 5 S2

## IRF6810S
designator *  value IRF6810S  Reference: Q
16A Id, 25V Vds, 5.2mOhm Rds, N-Channel MOSFET, DirectFET S1; ki_fp_filters: DirectFET*S1*; Footprint: Package_DirectFET:DirectFET_S1; Datasheet: https://www.infineon.com/dgdl/irf6810spbf.pdf?fileId=5546d462533600a4015355f0ab331ab4; Description_: 16A Id, 25V Vds, 5.2mOhm Rds, N-Channel MOSFET, DirectFET S1; ki_keywords: N-Channel MOSFET
pins: 1 D, 2 G (in), 3 S

## IRF6811S
designator *  value IRF6811S  Reference: Q
19A Id, 25V Vds, 3.7mOhm Rds, N-Channel MOSFET, DirectFET SQ; ki_fp_filters: DirectFET*SQ*; Footprint: Package_DirectFET:DirectFET_SQ; Datasheet: https://www.infineon.com/dgdl/irf6811spbf.pdf?fileId=5546d462533600a4015355f0b3661ab6; Description_: 19A Id, 25V Vds, 3.7mOhm Rds, N-Channel MOSFET, DirectFET SQ; ki_keywords: N-Channel MOSFET
pins: 1 D, 2 G (in), 3 S

## IRF6892S
designator *  value IRF6892S  Reference: Q
28A Id, 25V Vds, 1.7mOhm Rds, N-Channel MOSFET, DirectFET S3C; ki_fp_filters: DirectFET*S3C*; Footprint: Package_DirectFET:DirectFET_S3C; Datasheet: https://www.infineon.com/dgdl/irf6892spbf.pdf?fileId=5546d462533600a4015355f0bb961ab8; Description_: 28A Id, 25V Vds, 1.7mOhm Rds, N-Channel MOSFET, DirectFET S3C; ki_keywords: N-Channel MOSFET
pins: 1 D, 2 G (in), 3 S

## IRF6893M
designator *  value IRF6893M  Reference: Q
29A Id, 25V Vds, 1.6mOhm Rds, N-Channel MOSFET, DirectFET MX; ki_fp_filters: DirectFET*MX*; Footprint: Package_DirectFET:DirectFET_MX; Datasheet: https://www.infineon.com/dgdl/irf6893mpbf.pdf?fileId=5546d462533600a4015355f0c3de1aba; Description_: 29A Id, 25V Vds, 1.6mOhm Rds, N-Channel MOSFET, DirectFET MX; ki_keywords: N-Channel MOSFET
pins: 1 D, 2 G (in), 3 S

## IRF6894M
designator *  value IRF6894M  Reference: Q
37A Id, 25V Vds, 1.3mOhm Rds, N-Channel MOSFET, DirectFET MX; ki_fp_filters: DirectFET*MX*; Footprint: Package_DirectFET:DirectFET_MX; Datasheet: https://www.infineon.com/dgdl/Infineon-IRF6894M-DS-v02_00-EN.pdf?fileId=5546d462533600a4015355f0cc041abc; Description_: 37A Id, 25V Vds, 1.3mOhm Rds, N-Channel MOSFET, DirectFET MX; ki_keywords: N-Channel MOSFET
pins: 1 D, 2 G (in), 3 S

## IRF6898M
designator *  value IRF6898M  Reference: Q
35A Id, 25V Vds, 1.1mOhm Rds, N-Channel MOSFET, DirectFET MX; ki_fp_filters: DirectFET*MX*; Footprint: Package_DirectFET:DirectFET_MX; Datasheet: https://www.infineon.com/dgdl/irf6898mpbf.pdf?fileId=5546d462533600a4015355f0d4611abe; Description_: 35A Id, 25V Vds, 1.1mOhm Rds, N-Channel MOSFET, DirectFET MX; ki_keywords: N-Channel MOSFET
pins: 1 D, 2 G (in), 3 S

## IRF7171M
designator *  value IRF7171M  Reference: Q
93A Id, 100V Vds, 6.5mOhm Rds, N-Channel MOSFET, DirectFET MN; ki_fp_filters: DirectFET*MN*; Footprint: Package_DirectFET:DirectFET_MN; Datasheet: https://www.infineon.com/dgdl/irf7171mpbf.pdf?fileId=5546d462533600a4015355f1326f1ad6; Description_: 93A Id, 100V Vds, 6.5mOhm Rds, N-Channel MOSFET, DirectFET MN; ki_keywords: N-Channel MOSFET
pins: 1 D, 2 G (in), 3 S

## IRF7309PBF
designator *  value IRF7309PBF  Reference: Q
4A/-3A Id, 30V/-30 Vdss, Dual N and P-Channel MOSFET, HEXFET, 0.050 / 0.10 ohms Rds(on), SOIC-8; ki_keywords: N-Channel; ki_fp_filters: *SOIC*3.9x4.9mm*P1.27mm*; Footprint: Package_SO:SOIC-8_3.9x4.9mm_P1.27mm; Datasheet: https://www.infineon.com/dgdl/irf7309pbf.pdf?fileId=5546d462533600a4015355f224631b14; Description_: 4A/-3A Id, 30V/-30 Vdss, Dual N and P-Channel MOSFET, HEXFET, 0.050 / 0.10 ohms Rds(on), SOIC-8
part A pins: 1 S1, 2 G1 (in), 7 D1, 8 D1
part B pins: 3 S2, 4 G2 (in), 5 D2, 6 D2

## IRF7311PBF
designator *  value IRF7311PBF  Reference: Q
6.6A Id, 20V Vdss, Dual N-Channel MOSFET, HEXFET, 0.029 ohms Rds(on), SOIC-8; ki_keywords: fully-avalanche-rated; ki_fp_filters: *SOIC*3.9x4.9mm*P1.27mm*; Footprint: Package_SO:SOIC-8_3.9x4.9mm_P1.27mm; Datasheet: https://www.infineon.com/dgdl/irf7311pbf.pdf?fileId=5546d462533600a4015355f551ed1b22; Description_: 6.6A Id, 20V Vdss, Dual N-Channel MOSFET, HEXFET, 0.029 ohms Rds(on), SOIC-8
part A pins: 1 S1, 2 G1, 7 D1, 8 D1
part B pins: 3 S2, 4 G2, 5 D2, 6 D2

## IRF7324
designator *  value IRF7324  Reference: Q
-9A Id, -20V Vds, Dual HEXFET P-Channel MOSFET, SO-8; ki_fp_filters: SOIC*3.9x4.9mm*P1.27mm*; Footprint: Package_SO:SOIC-8_3.9x4.9mm_P1.27mm; Datasheet: http://www.infineon.com/dgdl/irf7324pbf.pdf?fileId=5546d462533600a4015355f5f0861b4b; Description_: -9A Id, -20V Vds, Dual HEXFET P-Channel MOSFET, SO-8; ki_keywords: Dual HEXFET P-Channel MOSFET
part A pins: 1 S1, 2 G1 (in), 7 D1, 8 D1
part B pins: 3 S2, 4 G2 (in), 5 D2, 6 D2

## IRF7341PBF
designator *  value IRF7341PBF  Reference: Q
4.7A Id, 55V Vdss, Dual N-Channel MOSFET, HEXFET, 0.050 ohms Rds(on), SOIC-8; ki_keywords: fully-avalanche-rated; ki_fp_filters: *SOIC*3.9x4.9mm*P1.27mm*; Footprint: Package_SO:SOIC-8_3.9x4.9mm_P1.27mm; Datasheet: https://www.infineon.com/dgdl/irf7341pbf.pdf?fileId=5546d462533600a4015355f64f031b63; Description_: 4.7A Id, 55V Vdss, Dual N-Channel MOSFET, HEXFET, 0.050 ohms Rds(on), SOIC-8
part A pins: 1 S1, 2 G1, 7 D1, 8 D1
part B pins: 3 S2, 4 G2, 5 D2, 6 D2

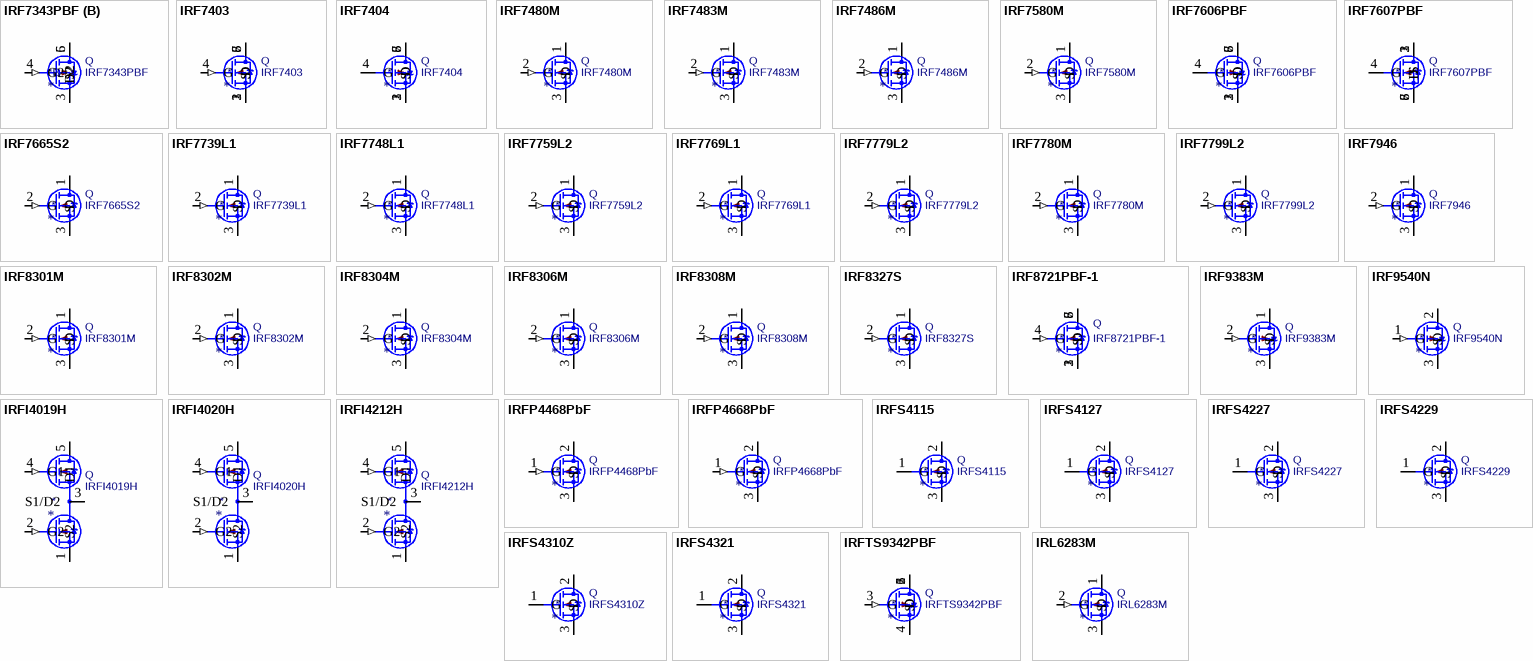
[diagram p11: symbols IRF7343PBF to IRL6283M]

## IRF7343PBF
designator *  value IRF7343PBF  Reference: Q
4A Id, 55V Vds, Dual HEXFET N- and P-channel MOSFET, SO-8; ki_keywords: Dual HEXFET N-Channel P-Channel MOSFET; ki_fp_filters: SOIC*3.9x4.9mm*P1.27mm*; Footprint: Package_SO:SOIC-8_3.9x4.9mm_P1.27mm; Datasheet: https://www.infineon.com/dgdl/irf7343pbf.pdf?fileId=5546d462533600a4015355f68c1a1b73; Description_: 4A Id, 55V Vds, Dual HEXFET N- and P-channel MOSFET, SO-8
part A pins: 1 S1, 2 G1 (in), 7 D1, 8 D1
part B pins: 3 S2, 4 G2 (in), 5 D2, 6 D2

## IRF7403
designator *  value IRF7403  Reference: Q
9.7A Id, 30V Vds, N-Channel HEXFET Power MOSFET, SO-8; ki_keywords: N-Channel MOSFET; ki_fp_filters: SOIC*3.9x4.9mm*P1.27mm*; Footprint: Package_SO:SOIC-8_3.9x4.9mm_P1.27mm; Datasheet: https://www.infineon.com/dgdl/irf7403pbf.pdf?fileId=5546d462533600a4015355fa23541b9c; Description_: 9.7A Id, 30V Vds, N-Channel HEXFET Power MOSFET, SO-8
pins: 1 S, 2 S, 3 S, 4 G (in), 5 D, 6 D, 7 D, 8 D

## IRF7404
designator *  value IRF7404  Reference: Q
-6.7A Id, -20V Vds, P-Channel HEXFET Power MOSFET, SO-8; ki_keywords: P-Channel MOSFET; ki_fp_filters: SOIC*3.9x4.9mm*P1.27mm*; Footprint: Package_SO:SOIC-8_3.9x4.9mm_P1.27mm; Datasheet: http://www.infineon.com/dgdl/irf7404.pdf?fileId=5546d462533600a4015355fa2b5b1b9e; Description_: -6.7A Id, -20V Vds, P-Channel HEXFET Power MOSFET, SO-8
pins: 1 S, 2 S, 3 S, 4 G, 5 D, 6 D, 7 D, 8 D

## IRF7480M
designator *  value IRF7480M  Reference: Q
330A Id, 40V Vds, 1.2mOhm Rds, N-Channel MOSFET, DirectFET ME; ki_fp_filters: DirectFET*ME*; Footprint: Package_DirectFET:DirectFET_ME; Datasheet: https://www.infineon.com/dgdl/Infineon-IRF7480M-DS-v01_02-EN.pdf?fileId=5546d462533600a4015355ff8fa41c30; Description_: 330A Id, 40V Vds, 1.2mOhm Rds, N-Channel MOSFET, DirectFET ME; ki_keywords: N-Channel MOSFET
pins: 1 D, 2 G (in), 3 S

## IRF7483M
designator *  value IRF7483M  Reference: Q
135A Id, 40V Vds, 2.3mOhm Rds, N-Channel MOSFET, DirectFET MF; ki_fp_filters: DirectFET*MF*; Footprint: Package_DirectFET:DirectFET_MF; Datasheet: https://www.infineon.com/dgdl/irf7483mpbf.pdf?fileId=5546d462533600a4015355ff98011c32; Description_: 135A Id, 40V Vds, 2.3mOhm Rds, N-Channel MOSFET, DirectFET MF; ki_keywords: N-Channel MOSFET
pins: 1 D, 2 G (in), 3 S

## IRF7486M
designator *  value IRF7486M  Reference: Q
209A Id, 40V Vds, 1.25mOhm Rds, N-Channel MOSFET, DirectFET ME; ki_fp_filters: DirectFET*ME*; Footprint: Package_DirectFET:DirectFET_ME; Datasheet: https://www.infineon.com/dgdl/Infineon-IRL7486M-DS-v01_00-EN.pdf?fileId=5546d46258fc0bc10158fec7a83a0629; Description_: 209A Id, 40V Vds, 1.25mOhm Rds, N-Channel MOSFET, DirectFET ME; ki_keywords: N-Channel MOSFET
pins: 1 D, 2 G (in), 3 S

## IRF7580M
designator *  value IRF7580M  Reference: Q
114A Id, 60V Vds, 3.6mOhm Rds, N-Channel MOSFET, DirectFET ME; ki_fp_filters: DirectFET*ME*; Footprint: Package_DirectFET:DirectFET_ME; Datasheet: https://www.infineon.com/dgdl/irf7580mpbf.pdf?fileId=5546d462533600a401535603855c1c72; Description_: 114A Id, 60V Vds, 3.6mOhm Rds, N-Channel MOSFET, DirectFET ME; ki_keywords: N-Channel MOSFET
pins: 1 D, 2 G (in), 3 S

## IRF7606PBF
designator *  value IRF7606PBF  Reference: Q
-3.6A Id, -30V Vds, HexFET P-MOS Power MOSFET, Ronon 0.09R, Micro8; ki_keywords: HexFET Power MOSFET P-MOS; ki_fp_filters: MSOP*3x3mm*P0.65mm*; Footprint: Package_SO:MSOP-8_3x3mm_P0.65mm; Datasheet: http://www.irf.com/product-info/datasheets/data/irf7606pbf.pdf; Description_: -3.6A Id, -30V Vds, HexFET P-MOS Power MOSFET, Ronon 0.09R, Micro8
pins: 1 S, 2 S, 3 S, 4 G, 5 D, 6 D, 7 D, 8 D

## IRF7607PBF
designator *  value IRF7607PBF  Reference: Q
5.2A Id, 20V Vds, HexFET N-MOS Power MOSFET, Ronon 0.03R, Micro8; ki_keywords: HexFET Power MOSFET N-MOS; ki_fp_filters: MSOP*3x3mm*P0.65mm*; Footprint: Package_SO:MSOP-8_3x3mm_P0.65mm; Datasheet: http://www.irf.com/product-info/datasheets/data/irf7607pbf.pdf; Description_: 5.2A Id, 20V Vds, HexFET N-MOS Power MOSFET, Ronon 0.03R, Micro8
pins: 1 S, 2 S, 3 S, 4 G, 5 D, 6 D, 7 D, 8 D

## IRF7665S2
designator *  value IRF7665S2  Reference: Q
14.4A Id, 100V Vds, 62mOhm Rds, N-Channel MOSFET, DirectFET SB; ki_fp_filters: DirectFET*SB*; Footprint: Package_DirectFET:DirectFET_SB; Datasheet: https://www.infineon.com/dgdl/irf7665s2pbf.pdf?fileId=5546d462533600a401535603d3ba1c86; Description_: 14.4A Id, 100V Vds, 62mOhm Rds, N-Channel MOSFET, DirectFET SB; ki_keywords: N-Channel MOSFET
pins: 1 D, 2 G (in), 3 S

## IRF7739L1
designator *  value IRF7739L1  Reference: Q
270A Id, 40V Vds, 1.0mOhm Rds, N-Channel MOSFET, DirectFET L8; ki_fp_filters: DirectFET*L8*; Footprint: Package_DirectFET:DirectFET_L8; Datasheet: https://www.infineon.com/dgdl/irf7739l1pbf.pdf?fileId=5546d462533600a40153560423d91c9a; Description_: 270A Id, 40V Vds, 1.0mOhm Rds, N-Channel MOSFET, DirectFET L8; ki_keywords: N-Channel MOSFET
pins: 1 D, 2 G (in), 3 S

## IRF7748L1
designator *  value IRF7748L1  Reference: Q
104A Id, 60V Vds, 2.2mOhm Rds, N-Channel MOSFET, DirectFET L6; ki_fp_filters: DirectFET*L6*; Footprint: Package_DirectFET:DirectFET_L6; Datasheet: https://www.infineon.com/dgdl/irf7748l1pbf.pdf?fileId=5546d462533600a40153560434c11c9e; Description_: 104A Id, 60V Vds, 2.2mOhm Rds, N-Channel MOSFET, DirectFET L6; ki_keywords: N-Channel MOSFET
pins: 1 D, 2 G (in), 3 S

## IRF7759L2
designator *  value IRF7759L2  Reference: Q
160A Id, 75V Vds, 2.3mOhm Rds, N-Channel MOSFET, DirectFET L8; ki_fp_filters: DirectFET*L8*; Footprint: Package_DirectFET:DirectFET_L8; Datasheet: https://www.infineon.com/dgdl/irf7759l2pbf.pdf?fileId=5546d462533600a40153560478171cb0; Description_: 160A Id, 75V Vds, 2.3mOhm Rds, N-Channel MOSFET, DirectFET L8; ki_keywords: N-Channel MOSFET
pins: 1 D, 2 G (in), 3 S

## IRF7769L1
designator *  value IRF7769L1  Reference: Q
88A Id, 100V Vds, 3.5mOhm Rds, N-Channel MOSFET, DirectFET L8; ki_fp_filters: DirectFET*L8*; Footprint: Package_DirectFET:DirectFET_L8; Datasheet: https://www.infineon.com/dgdl/Infineon-IRF7769L1-DS-v02_00-EN.pdf?fileId=5546d462533600a4015356079bd91cb4; Description_: 88A Id, 100V Vds, 3.5mOhm Rds, N-Channel MOSFET, DirectFET L8; ki_keywords: N-Channel MOSFET
pins: 1 D, 2 G (in), 3 S

## IRF7779L2
designator *  value IRF7779L2  Reference: Q
67A Id, 150V Vds, 11mOhm Rds, N-Channel MOSFET, DirectFET L8; ki_fp_filters: DirectFET*L8*; Footprint: Package_DirectFET:DirectFET_L8; Datasheet: https://www.infineon.com/dgdl/irf7779l2pbf.pdf?fileId=5546d462533600a401535607ac011cb8; Description_: 67A Id, 150V Vds, 11mOhm Rds, N-Channel MOSFET, DirectFET L8; ki_keywords: N-Channel MOSFET
pins: 1 D, 2 G (in), 3 S

## IRF7780M
designator *  value IRF7780M  Reference: Q
89A Id, 75V Vds, 5.7mOhm Rds, N-Channel MOSFET, DirectFET ME; ki_fp_filters: DirectFET*ME*; Footprint: Package_DirectFET:DirectFET_ME; Datasheet: https://www.infineon.com/dgdl/irf7780mpbf.pdf?fileId=5546d462533600a401535607b41f1cba; Description_: 89A Id, 75V Vds, 5.7mOhm Rds, N-Channel MOSFET, DirectFET ME; ki_keywords: N-Channel MOSFET
pins: 1 D, 2 G (in), 3 S

## IRF7799L2
designator *  value IRF7799L2  Reference: Q
35A Id, 250V Vds, 38mOhm Rds, N-Channel MOSFET, DirectFET L8; ki_fp_filters: DirectFET*L8*; Footprint: Package_DirectFET:DirectFET_L8; Datasheet: https://www.infineon.com/dgdl/irf7799l2pbf.pdf?fileId=5546d462533600a401535607bc471cbc; Description_: 35A Id, 250V Vds, 38mOhm Rds, N-Channel MOSFET, DirectFET L8; ki_keywords: N-Channel MOSFET
pins: 1 D, 2 G (in), 3 S

## IRF7946
designator *  value IRF7946  Reference: Q
198A Id, 40V Vds, 1.4mOhm Rds, N-Channel MOSFET, DirectFET MX; ki_fp_filters: DirectFET*MX*; Footprint: Package_DirectFET:DirectFET_MX; Datasheet: https://www.infineon.com/dgdl/irf7946pbf.pdf?fileId=5546d462533600a40153560cc0a41d43; Description_: 198A Id, 40V Vds, 1.4mOhm Rds, N-Channel MOSFET, DirectFET MX; ki_keywords: N-Channel MOSFET
pins: 1 D, 2 G (in), 3 S

## IRF8301M
designator *  value IRF8301M  Reference: Q
34A Id, 30V Vds, 1.5mOhm Rds, N-Channel MOSFET, DirectFET MT; ki_fp_filters: DirectFET*MT*; Footprint: Package_DirectFET:DirectFET_MT; Datasheet: https://www.infineon.com/dgdl/irf8301mpbf.pdf?fileId=5546d462533600a40153560d0e7a1d58; Description_: 34A Id, 30V Vds, 1.5mOhm Rds, N-Channel MOSFET, DirectFET MT; ki_keywords: N-Channel MOSFET
pins: 1 D, 2 G (in), 3 S

## IRF8302M
designator *  value IRF8302M  Reference: Q
31A Id, 30V Vds, 1.8mOhm Rds, N-Channel MOSFET, DirectFET MX; ki_fp_filters: DirectFET*MX*; Footprint: Package_DirectFET:DirectFET_MX; Datasheet: https://www.infineon.com/dgdl/irf8302mpbf.pdf?fileId=5546d462533600a40153560d16e41d5b; Description_: 31A Id, 30V Vds, 1.8mOhm Rds, N-Channel MOSFET, DirectFET MX; ki_keywords: N-Channel MOSFET
pins: 1 D, 2 G (in), 3 S

## IRF8304M
designator *  value IRF8304M  Reference: Q
28A Id, 30V Vds, 2.2mOhm Rds, N-Channel MOSFET, DirectFET MX; ki_fp_filters: DirectFET*MX*; Footprint: Package_DirectFET:DirectFET_MX; Datasheet: https://www.infineon.com/dgdl/irf8304mpbf.pdf?fileId=5546d462533600a40153560d20db1d5d; Description_: 28A Id, 30V Vds, 2.2mOhm Rds, N-Channel MOSFET, DirectFET MX; ki_keywords: N-Channel MOSFET
pins: 1 D, 2 G (in), 3 S

## IRF8306M
designator *  value IRF8306M  Reference: Q
23A Id, 30V Vds, 2.5mOhm Rds, N-Channel MOSFET, DirectFET MX; ki_fp_filters: DirectFET*MX*; Footprint: Package_DirectFET:DirectFET_MX; Datasheet: https://www.infineon.com/dgdl/irf8306mpbf.pdf?fileId=5546d462533600a40153560d29371d5f; Description_: 23A Id, 30V Vds, 2.5mOhm Rds, N-Channel MOSFET, DirectFET MX; ki_keywords: N-Channel MOSFET
pins: 1 D, 2 G (in), 3 S

## IRF8308M
designator *  value IRF8308M  Reference: Q
27A Id, 30V Vds, 2.5mOhm Rds, N-Channel MOSFET, DirectFET MX; ki_fp_filters: DirectFET*MX*; Footprint: Package_DirectFET:DirectFET_MX; Datasheet: https://www.infineon.com/dgdl/irf8308mpbf.pdf?fileId=5546d462533600a40153560d319d1d61; Description_: 27A Id, 30V Vds, 2.5mOhm Rds, N-Channel MOSFET, DirectFET MX; ki_keywords: N-Channel MOSFET
pins: 1 D, 2 G (in), 3 S

## IRF8327S
designator *  value IRF8327S  Reference: Q
13A Id, 30V Vds, 7.3mOhm Rds, N-Channel MOSFET, DirectFET SQ; ki_fp_filters: DirectFET*SQ*; Footprint: Package_DirectFET:DirectFET_SQ; Datasheet: https://www.infineon.com/dgdl/irf8327spbf.pdf?fileId=5546d462533600a40153560d40c41d65; Description_: 13A Id, 30V Vds, 7.3mOhm Rds, N-Channel MOSFET, DirectFET SQ; ki_keywords: N-Channel MOSFET
pins: 1 D, 2 G (in), 3 S

## IRF8721PBF-1
designator *  value IRF8721PBF-1  Reference: Q
14A Id, 30V Vds, HEXFET N-Channel MOSFET, SO-8; ki_fp_filters: SOIC*3.9x4.9mm*P1.27mm*; Footprint: Package_SO:SOIC-8_3.9x4.9mm_P1.27mm; Datasheet: http://www.irf.com/product-info/datasheets/data/irf8721pbf-1.pdf; Description_: 14A Id, 30V Vds, HEXFET N-Channel MOSFET, SO-8; ki_keywords: HEXFET N-Channel MOSFET
pins: 1 S, 2 S, 3 S, 4 G (in), 5 D, 6 D, 7 D, 8 D

## IRF9383M
designator *  value IRF9383M  Reference: Q
-22A Id, -30V Vds, 2.9mOhm Rds, P-Channel MOSFET, DirectFET MX; ki_fp_filters: DirectFET*MX*; Footprint: Package_DirectFET:DirectFET_MX; Datasheet: https://www.infineon.com/dgdl/irf9383mpbf.pdf?fileId=5546d462533600a40153561169a11dab; Description_: -22A Id, -30V Vds, 2.9mOhm Rds, P-Channel MOSFET, DirectFET MX; ki_keywords: P-Channel MOSFET
pins: 1 D, 2 G (in), 3 S

## IRF9540N
designator *  value IRF9540N  Reference: Q
-23A Id, -100V Vds, 117mOhm Rds, P-Channel HEXFET Power MOSFET, TO-220; ki_keywords: P-Channel MOSFET HEXFET; ki_fp_filters: TO?220*; Footprint: Package_TO_SOT_THT:TO-220-3_Vertical; Datasheet: http://www.irf.com/product-info/datasheets/data/irf9540n.pdf; Description_: -23A Id, -100V Vds, 117mOhm Rds, P-Channel HEXFET Power MOSFET, TO-220
pins: 1 G (in), 2 D, 3 S

## IRFI4019H
designator *  value IRFI4019H  Reference: Q
8.7A Id, 150V Vds, 80mOhm Rds, Dual Half Bridge N-Channel MOSFET, TO-220-5; ki_keywords: Dual N-Channel MOSFET Half-Bridge; ki_fp_filters: TO?220F*P3.4x2.06mm*StaggerEven*Lead1.86mm*; Footprint: Package_TO_SOT_THT:TO-220F-5_P3.4x2.06mm_StaggerEven_Lead1.86mm_Vertical; Datasheet: https://www.infineon.com/dgdl/irfi4019h-117p.pdf?fileId=5546d462533600a401535623d74d1f6f; Description_: 8.7A Id, 150V Vds, 80mOhm Rds, Dual Half Bridge N-Channel MOSFET, TO-220-5
pins: 1 S2, 2 G2 (in), 3 S1/D2, 4 G1 (in), 5 D1

## IRFI4020H
designator *  value IRFI4020H  Reference: Q
9.1A Id, 200V Vds, 80mOhm Rds, Dual Half Bridge N-Channel MOSFET, TO-220-5; ki_keywords: Dual N-Channel MOSFET Half-Bridge; ki_fp_filters: TO?220F*P3.4x2.06mm*StaggerEven*Lead1.86mm*; Footprint: Package_TO_SOT_THT:TO-220F-5_P3.4x2.06mm_StaggerEven_Lead1.86mm_Vertical; Datasheet: https://www.infineon.com/dgdl/irfi4020h-117p.pdf?fileId=5546d462533600a401535623e7271f73; Description_: 9.1A Id, 200V Vds, 80mOhm Rds, Dual Half Bridge N-Channel MOSFET, TO-220-5
pins: 1 S2, 2 G2 (in), 3 S1/D2, 4 G1 (in), 5 D1

## IRFI4212H
designator *  value IRFI4212H  Reference: Q
11A Id, 100V Vds, 58mOhm Rds, Dual Half Bridge N-Channel MOSFET, TO-220-5; ki_keywords: Dual N-Channel MOSFET Half-Bridge; ki_fp_filters: TO?220F*P3.4x2.06mm*StaggerEven*Lead1.86mm*; Footprint: Package_TO_SOT_THT:TO-220F-5_P3.4x2.06mm_StaggerEven_Lead1.86mm_Vertical; Datasheet: https://www.infineon.com/dgdl/irfi4212h-117p.pdf?fileId=5546d462533600a401535623fc841f7a; Description_: 11A Id, 100V Vds, 58mOhm Rds, Dual Half Bridge N-Channel MOSFET, TO-220-5
pins: 1 S2, 2 G2 (in), 3 S1/D2, 4 G1 (in), 5 D1

## IRFP4468PbF
designator *  value IRFP4468PbF  Reference: Q
195A Id, 100V Vds, N-Channel Power MOSFET, TO-247; ki_fp_filters: TO?247*; Footprint: Package_TO_SOT_THT:TO-247-3_Vertical; Datasheet: https://www.infineon.com/dgdl/irfp4468pbf.pdf?fileId=5546d462533600a40153562c73472019; Description_: 195A Id, 100V Vds, N-Channel Power MOSFET, TO-247; ki_keywords: N-Channel Power MOSFET
pins: 1 G (in), 2 D, 3 S

## IRFP4668PbF
designator *  value IRFP4668PbF  Reference: Q
130A Id, 200V Vds, N-Channel Power MOSFET, TO-247; ki_fp_filters: TO?247*; Footprint: Package_TO_SOT_THT:TO-247-3_Vertical; Datasheet: https://www.infineon.com/dgdl/irfp4668pbf.pdf?fileId=5546d462533600a40153562c8528201d; Description_: 130A Id, 200V Vds, N-Channel Power MOSFET, TO-247; ki_keywords: N-Channel Power MOSFET
pins: 1 G (in), 2 D, 3 S

## IRFS4115
designator *  value IRFS4115  Reference: Q
99A Id, 150V Vds, 10.3mOhm Rds, N-Channel HEXFET Power MOSFET, D2PAK; ki_keywords: N-Channel HEXFET MOSFET; ki_fp_filters: TO?263*; Footprint: Package_TO_SOT_SMD:TO-263-2; Datasheet: https://www.infineon.com/dgdl/irfs4115pbf.pdf?fileId=5546d462533600a401535636e5d2218f; Description_: 99A Id, 150V Vds, 10.3mOhm Rds, N-Channel HEXFET Power MOSFET, D2PAK
pins: 1 G, 2 D, 3 S

## IRFS4127
designator *  value IRFS4127  Reference: Q
72A Id, 200V Vds, 18.6mOhm Rds, N-Channel MOSFET, 18.6mOhm Ron, D2PAK; ki_fp_filters: TO?263*; Footprint: Package_TO_SOT_SMD:TO-263-2; Datasheet: https://www.infineon.com/dgdl/irfs4127pbf.pdf?fileId=5546d462533600a401535636ee7b2192; Description_: 72A Id, 200V Vds, 18.6mOhm Rds, N-Channel MOSFET, 18.6mOhm Ron, D2PAK; ki_keywords: N-Channel MOSFET
pins: 1 G, 2 D, 3 S

## IRFS4227
designator *  value IRFS4227  Reference: Q
130A Id, 200V Vds, 22mOhm Rds, N-Channel MOSFET, D2PAK; ki_fp_filters: TO?263*; Footprint: Package_TO_SOT_SMD:TO-263-2; Datasheet: https://www.infineon.com/dgdl/irfs4227pbf.pdf?fileId=5546d462533600a401535639ef64219b; Description_: 130A Id, 200V Vds, 22mOhm Rds, N-Channel MOSFET, D2PAK; ki_keywords: N-Channel MOSFET
pins: 1 G, 2 D, 3 S

## IRFS4229
designator *  value IRFS4229  Reference: Q
91A Id, 250V Vds, 42mOhm Rds, N-Channel MOSFET, D2PAK; ki_fp_filters: TO?263*; Footprint: Package_TO_SOT_SMD:TO-263-2; Datasheet: https://www.infineon.com/dgdl/irfs4229pbf.pdf?fileId=5546d462533600a401535639fdc421a1; Description_: 91A Id, 250V Vds, 42mOhm Rds, N-Channel MOSFET, D2PAK; ki_keywords: N-Channel MOSFET
pins: 1 G, 2 D, 3 S

## IRFS4310Z
designator *  value IRFS4310Z  Reference: Q
120A Id, 100V Vds, 4.8mOhm Rds, N-Channel HEXFET Power MOSFET, D2PAK; ki_keywords: N-Channel MOSFET; ki_fp_filters: TO?263*; Footprint: Package_TO_SOT_SMD:TO-263-2; Datasheet: https://www.infineon.com/dgdl/irfb4310zpbf.pdf?fileId=5546d462533600a4015356161b4d1e2d; Description_: 120A Id, 100V Vds, 4.8mOhm Rds, N-Channel HEXFET Power MOSFET, D2PAK
pins: 1 G, 2 D, 3 S